# EAGLE library part LM75BD (library mbed-HDK-IC)
Temperature Sensor Thermal Watchdog Digital
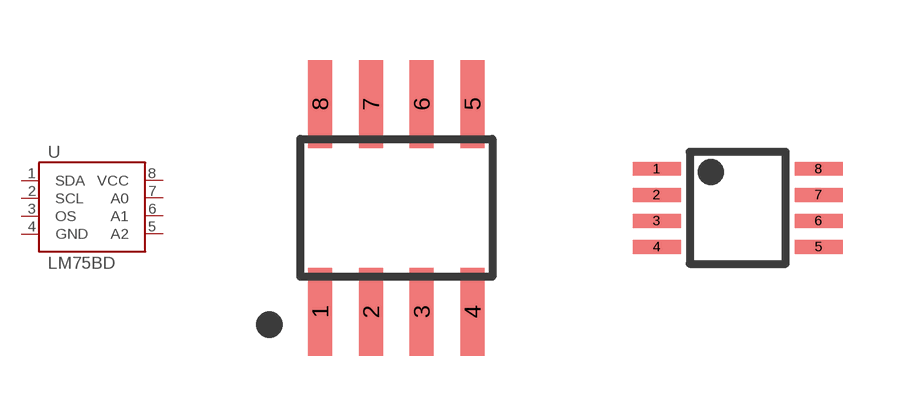
[diagram p2: symbol with the pads of SO8; footprints SO8, TSSOP8]

Designator prefix U

## LM75BD (MF: NXP; MFN: LM75BD; OC-DIGIKEY: 568-10323-5-ND; OC-MOUSER: 771-LM75BD,112; OC-NEWARK: 39T1312)  [SO8]
1  SDA
2  SCL
3  OS
4  GND
5  A2
6  A1
7  A0
8  VCC

## LM75BD_TSSOP8 (MF: NXP; MFN: LM75BDP; OC-DIGIKEY: 568-8697-1-ND; OC-MOUSER: 771-LM75BDP/DG118; OC-NEWARK: 2396742)  [TSSOP8]
Pads as for SO8

## Footprint SO8 (pad centres in mm)
smd 0.6 x 2.2: 1 -1.905,-2.6; 2 -0.635,-2.6; 3 0.635,-2.6; 4 1.905,-2.6; 5 1.905,2.6; 6 0.635,2.6; 7 -0.635,2.6; 8 -1.905,2.6

## Footprint TSSOP8 (pad centres in mm)
Plastic Small Outline
smd 1.2 x 0.35: 1 -2.025,0.975; 2 -2.025,0.325; 3 -2.025,-0.325; 4 -2.025,-0.975; 5 2.025,-0.975; 6 2.025,-0.325; 7 2.025,0.325; 8 2.025,0.975